# EAGLE library part 690357282276 (library Eagle_BOARD-TO-BOARD_CONNECTORS (rev18b))
WR-MM Male SMT Connector without Latch and without Polarization, 22 pins=>Code : Con_BTB_MM_SMT_690357282276 <http://katalog.we-online.de/media/thumbs2/eican/thb_Con_BTB_MM_SMT_69035728xx76_pf2.jpg> Details see: http://katalog.we-online.de/en/em/6903_5728_xx_76 Created 2014-06-04, Karrer Zheng 2014 (C) Würth Elektronik
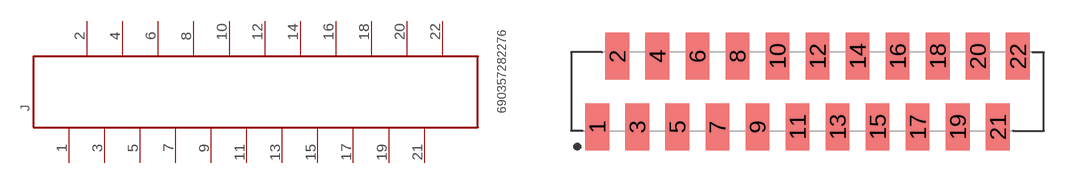
[diagram p324: symbol with the pads of 690357282276; footprint 690357282276]

Designator prefix J

## 690357282276  [690357282276]
1  1  pas
2  2  pas
3  3  pas
4  4  pas
5  5  pas
6  6  pas
7  7  pas
8  8  pas
9  9  pas
10  10  pas
11  11  pas
12  12  pas
13  13  pas
14  14  pas
15  15  pas
16  16  pas
17  17  pas
18  18  pas
19  19  pas
20  20  pas
21  21  pas
22  22  pas

## Footprint 690357282276 (pad centres in mm)
WR-MM Male SMT Connector without Latch and without Polarization, 22 pins
smd 1.5 x 3: 1 -13.335,-2.25; 2 -12.065,2.25; 3 -10.795,-2.25; 4 -9.525,2.25; 5 -8.255,-2.25; 6 -6.985,2.25; 7 -5.715,-2.25; 8 -4.445,2.25; 9 -3.175,-2.25; 10 -1.905,2.25; 11 -0.635,-2.25; 12 0.635,2.25; 13 1.905,-2.25; 14 3.175,2.25; 15 4.445,-2.25; 16 5.715,2.25; 17 6.985,-2.25; 18 8.255,2.25; 19 9.525,-2.25; 20 10.795,2.25; 21 12.065,-2.25; 22 13.335,2.25